# Altium integrated library STMicro-STM32F0.IntLib: 143 symbols (part 11 of 11)
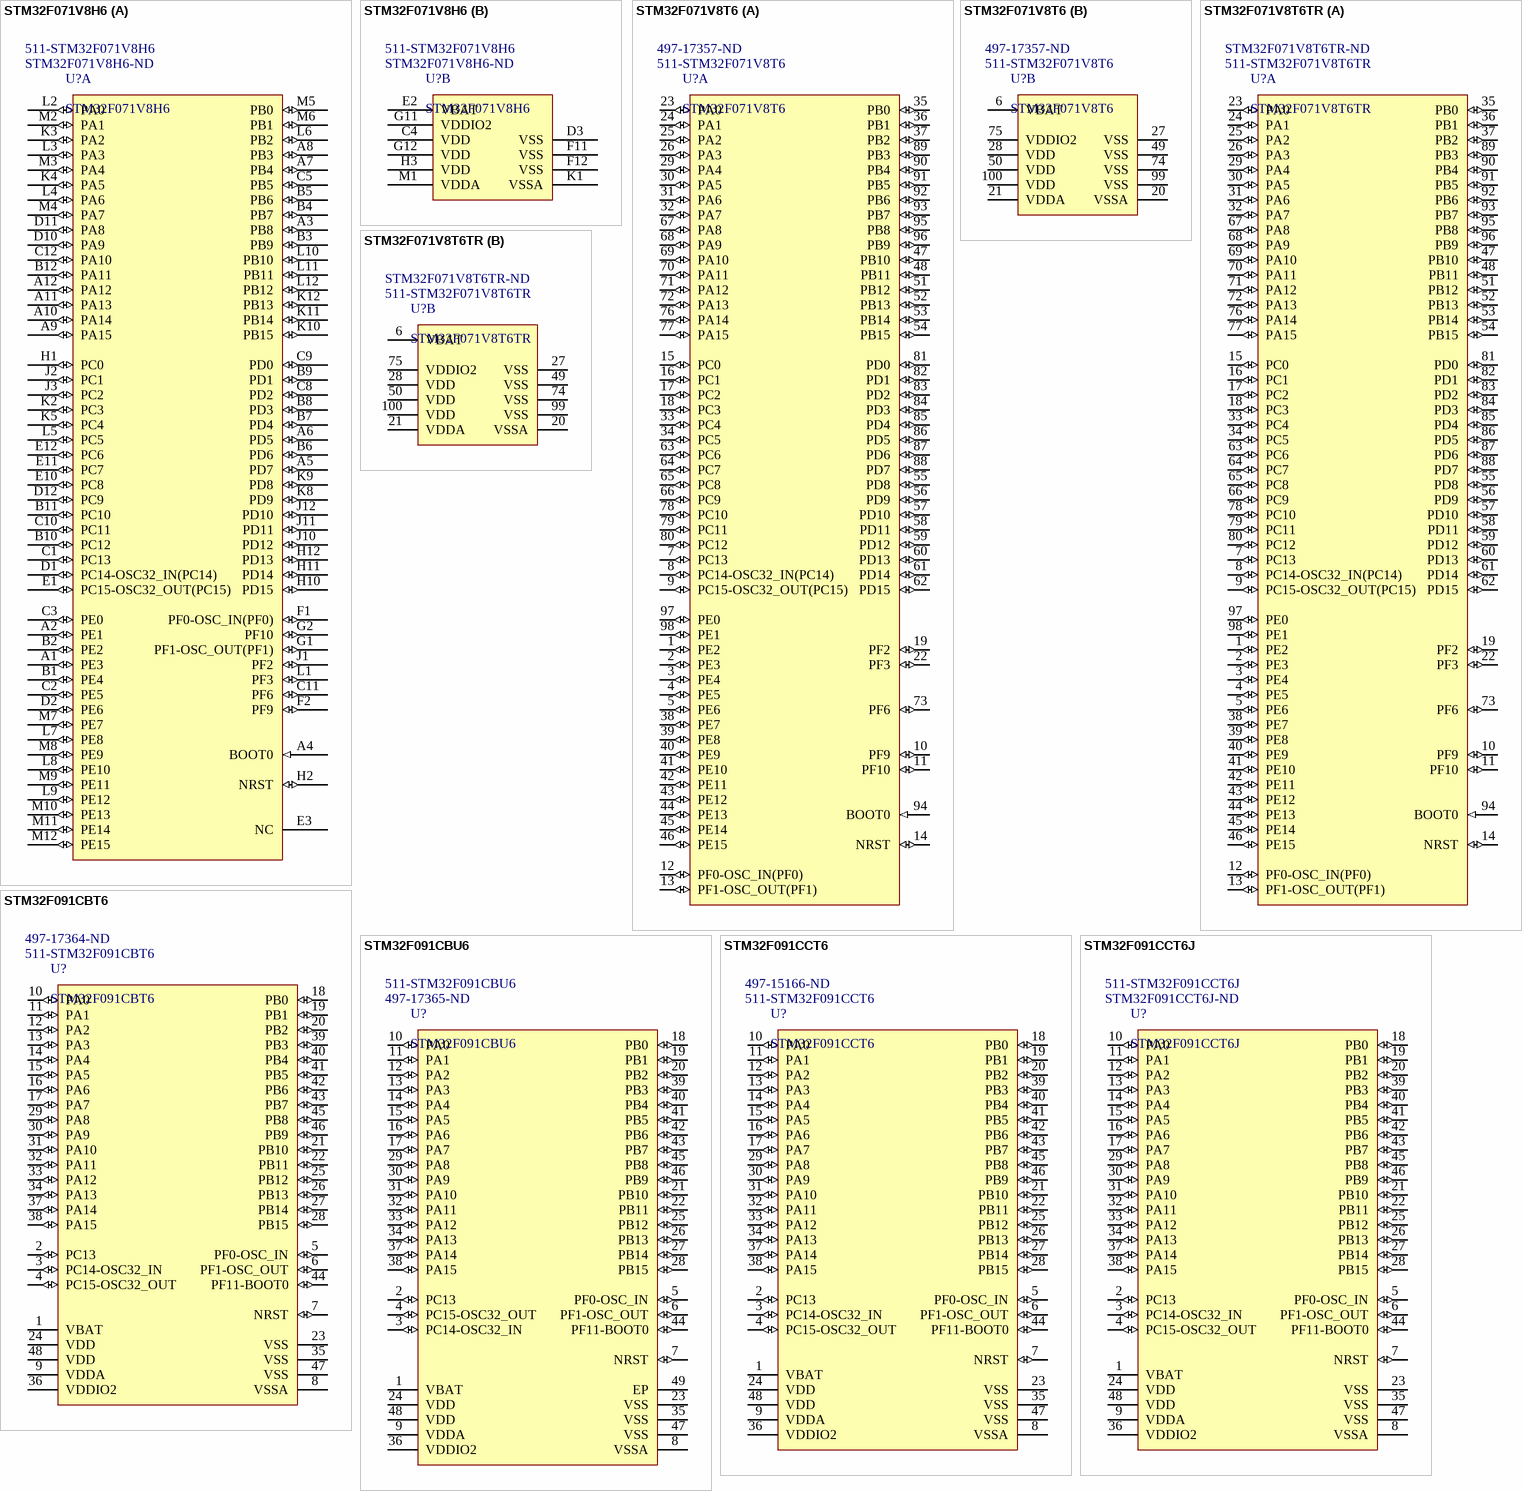
[diagram p24: symbols STM32F071V8H6 to STM32F091CCT6J]

## STM32F071V8T6TR
designator U?  Supplier Part Number 1: 511-STM32F071V8T6TR  Supplier Part Number 2: STM32F071V8T6TR-ND
ARM Cortex-M0 32-bit MCU, 64 KB Flash, 16 KB Internal RAM, 87 I/Os, 100-Pin LQFP, -40 to 85 degC, Tape and Reel; I/Os (High Current): 87; Supply Voltage(Vcc) min (V): 2; Internal RAM Size (kB): 16; FLASH Size (Prog) (kB): 64; Operating Frequency(F) (Processor speed) (MHz): 48; Mounting Technology: Surface Mount; DatasheetVersion: Rev. 6; ComponentLink2URL: http://www.st.com/st-web-ui/static/active/en/resource/technical/document/datasheet/DM00098745.pdf; Package Description: 100-Pin Low Profile Quad Flat Package, Body 14 x 14 mm, Pitch 0.5 mm; Core: ARM Cortex-M0; ComponentLink2Description: Datasheet; ComponentLink1Description: Manufacturer URL; Package Reference: LQFP100; ComponentLink1URL: http://www.st.com/; D/A Converter: 2; Packing: Tape and Reel; Supplier 1: Mouser; Supplier 2: Digi-Key
footprint STM-LQFP100_L (Thin QFP, 100-Leads, Body 14x14mm, Pitch 0.5mm, IPC High Density)
footprint STM-LQFP100_M (Thin QFP, 100-Leads, Body 14x14mm, Pitch 0.5mm, IPC Low Density)
footprint STM-LQFP100_N (Thin QFP, 100-Leads, Body 14x14mm, Pitch 0.5mm, IPC Medium Density)
part A pins: 1 PE2 (io) "PE2/TSC_G7_IO1,TIM3_ETR", 2 PE3 (io) "PE3/TSC_G7_IO2,TIM3_CH1", 3 PE4 (io) "PE4/TSC_G7_IO3,TIM3_CH2", 4 PE5 (io) "PE5/TSC_G7_IO4,TIM3_CH3", 5 PE6 (io) "PE6/TIM3_CH4/WKUP3,RTC_TAMP3", 7 PC13 (io) "PC13/WKUP2,RTC_TAMP1,RTC_TS,RTC_OUT", 8 PC14-OSC32_IN(PC14) (io) "PC14-OSC32_IN(PC14)/OSC32_IN", 9 PC15-OSC32_OUT(PC15) (io) "PC15-OSC32_OUT(PC15)/OSC32_OUT", 10 PF9 (io) "PF9/TIM15_CH1", 11 PF10 (io) "PF10/TIM15_CH2", 12 PF0-OSC_IN(PF0) (io) "PF0-OSC_IN(PF0)/CRS_SYNC/OSC_IN", 13 PF1-OSC_OUT(PF1) (io) "PF1-OSC_OUT(PF1)/OSC_OUT", 14 NRST (io) "Device reset input/internal reset output(active low)", 15 PC0 (io) "PC0/EVENTOUT/ADC_IN10", 16 PC1 (io) "PC1/EVENTOUT/ADC_IN11", 17 PC2 (io) "PC2/SPI2_MISO,I2S2_MCK,EVENTOUT/ADC_IN12", 18 PC3 (io) "PC3/SPI2_MOSI,I2S2_SD,EVENTOUT/ADC_IN13", 19 PF2 (io) "PF2/EVENTOUT/WKUP8", 22 PF3 (io) "PF3/EVENTOUT", 23 PA0 (io) "PA0/USART2_CTS,TIM2_CH1_ETR,TSC_G1_IO1,USART4_TX/RTC_TAMP2,WKUP1,COMP1_OUT,ADC_IN0,COMP1_INM6", 24 PA1 (io) "PA1/USART2_RTS,TIM2_CH2,TIM15_CH1N,TSC_G1_IO2,USART4_RX,EVENTOUT/ADC_IN1,COMP1_INP", 25 PA2 (io) "PA2/USART2_TX,TIM2_CH3,TIM15_CH1,TSC_G1_IO3/ADC_IN2,COMP2_OUT,COMP2_INM6,WKUP4", 26 PA3 (io) "PA3/USART2_RX,TIM2_CH4,TIM15_CH2,TSC_G1_IO4/ADC_IN3,COMP2_INP", 29 PA4 (io) "PA4/SPI1_NSS,I2S1_WS,TIM14_CH1,TSC_G2_IO1,USART2_CK/COMP1_INM4,COMP2_INM4,ADC_IN4,DAC_OUT1", 30 PA5 (io) "PA5/SPI1_SCK,I2S1_CK,CEC,TIM2_CH1_ETR,TSC_G2_IO2/COMP1_INM5,COMP2_INM5,ADC_IN5,DAC_OUT2", 31 PA6 (io) "PA6/SPI1_MISO,I2S1_MCK,TIM3_CH1,TIM1_BKIN,TIM16_CH1,COMP1_OUT,TSC_G2_IO3,EVENTOUT,USART3_CTS/ADC_IN6", 32 PA7 (io) "PA7/SPI1_MOSI,I2S1_SD,TIM3_CH2,TIM14_CH1,TIM1_CH1N,TIM17_CH1,COMP2_OUT,TSC_G2_IO4,EVENTOUT/ADC_IN7", 33 PC4 (io) "PC4/EVENTOUT,USART3_TX/ADC_IN14", 34 PC5 (io) "PC5/TSC_G3_IO1,USART3_RX/ADC_IN15,WKUP5", 35 PB0 (io) "PB0/TIM3_CH3,TIM1_CH2N,TSC_G3_IO2,EVENTOUT,USART3_CK/ADC_IN8", 36 PB1 (io) "PB1/TIM3_CH4,USART3_RTS,TIM14_CH1,TIM1_CH3N,TSC_G3_IO3/ADC_IN9", 37 PB2 (io) "PB2/TSC_G3_IO4", 38 PE7 (io) "PE7/TIM1_ETR", 39 PE8 (io) "PE8/TIM1_CH1N", 40 PE9 (io) "PE9/TIM1_CH1", 41 PE10 (io) "PE10/TIM1_CH2N", 42 PE11 (io) "PE11/TIM1_CH2", 43 PE12 (io) "PE12/SPI1_NSS,I2S1_WS,TIM1_CH3N", 44 PE13 (io) "PE13/SPI1_SCK,I2S1_CK,TIM1_CH3", 45 PE14 (io) "PE14/SPI1_MISO,I2S1_MCK,TIM1_CH4", 46 PE15 (io) "PE15/SPI1_MOSI,I2S1_SD,TIM1_BKIN", 47 PB10 (io) "PB10/SPI2_SCK,I2C2_SCL,USART3_TX,CEC,TSC_SYNC,TIM2_CH3", 48 PB11 (io) "PB11/USART3_RX,TIM2_CH4,EVENTOUT,TSC_G6_IO1,I2C2_SDA", 51 PB12 (io) "PB12/TIM1_BKIN,TIM15_BKIN,SPI2_NSS,I2S2_WS,USART3_CK,TSC_G6_IO2,EVENTOUT", 52 PB13 (io) "PB13/SPI2_SCK,I2S2_CK,I2C2_SCL,USART3_CTS,TIM1_CH1N,TSC_G6_IO3", 53 PB14 (io) "PB14/SPI2_MISO,I2S2_MCK,I2C2_SDA,USART3_RTS,TIM1_CH2N,TIM15_CH1,TSC_G6_IO4", 54 PB15 (io) "PB15/SPI2_MOSI,I2S2_SD,TIM1_CH3N,TIM15_CH1N,TIM15_CH2/WKUP7,RTC_REFIN", 55 PD8 (io) "PD8/USART3_TX", 56 PD9 (io) "PD9/USART3_RX", 57 PD10 (io) "PD10/USART3_CK", 58 PD11 (io) "PD11/USART3_CTS", 59 PD12 (io) "PD12/USART3_RTS,TSC_G8_IO1", 60 PD13 (io) "PD13/TSC_G8_IO2", 61 PD14 (io) "PD14/TSC_G8_IO3", 62 PD15 (io) "PD15/TSC_G8_IO4,CRS_SYNC", 63 PC6 (io) "PC6/TIM3_CH1", 64 PC7 (io) "PC7/TIM3_CH2", 65 PC8 (io) "PC8/TIM3_CH3", 66 PC9 (io) "PC9/TIM3_CH4", 67 PA8 (io) "PA8/USART1_CK,TIM1_CH1,EVENTOUT,MCO,CRS_SYNC", 68 PA9 (io) "PA9/USART1_TX,TIM1_CH2,TIM15_BKIN,TSC_G4_IO1", 69 PA10 (io) "PA10/USART1_RX,TIM1_CH3,TIM17_BKIN,TSC_G4_IO2", 70 PA11 (io) "PA11/USART1_CTS,TIM1_CH4,COMP1_OUT,TSC_G4_IO3,EVENTOUT", 71 PA12 (io) "PA12/USART1_RTS,TIM1_ETR,COMP2_OUT,TSC_G4_IO4,EVENTOUT", 72 PA13 (io) "PA13/IR_OUT,SWDIO", 73 PF6 (io), 76 PA14 (io) "PA14/USART2_TX,SWCLK", 77 PA15 (io) "PA15/SPI1_NSS,I2S1_WS,USART2_RX,USART4_RTS,TIM2_CH1_ETR,EVENTOUT", 78 PC10 (io) "PC10/USART3_TX,USART4_TX", 79 PC11 (io) "PC11/USART3_RX,USART4_RX", 80 PC12 (io) "PC12/USART3_CK,USART4_CK", 81 PD0 (io) "PD0/SPI2_NSS,I2S2_WS", 82 PD1 (io) "PD1/SPI2_SCK,I2S2_CK", 83 PD2 (io) "PD2/USART3_RTS,TIM3_ETR", 84 PD3 (io) "PD3/SPI2_MISO,I2S2_MCK,USART2_CTS", 85 PD4 (io) "PD4/SPI2_MOSI,I2S2_SD,USART2_RTS", 86 PD5 (io) "PD5/USART2_TX", 87 PD6 (io) "PD6/USART2_RX", 88 PD7 (io) "PD7/USART2_CK", 89 PB3 (io) "PB3/SPI1_SCK,I2S1_CK,TIM2_CH2,TSC_G5_IO1,EVENTOUT", 90 PB4 (io) "PB4/SPI1_MISO,I2S1_MCK,TIM17_BKIN,TIM3_CH1,TSC_G5_IO2,EVENTOUT", 91 PB5 (io) "PB5/SPI1_MOSI,I2S1_SD,I2C1_SMBA,TIM16_BKIN,TIM3_CH2/WKUP6", 92 PB6 (io) "PB6/I2C1_SCL,USART1_TX,TIM16_CH1N,TSC_G5_IO3", 93 PB7 (io) "PB7/I2C1_SDA,USART1_RX,USART4_CTS,TIM17_CH1N,TSC_G5_IO4", 94 BOOT0 (in) "Boot memory selection", 95 PB8 (io) "PB8/I2C1_SCL,CEC,TIM16_CH1,TSC_SYNC", 96 PB9 (io) "PB9/SPI2_NSS,I2S2_WS,I2C1_SDA,IR_OUT,TIM17_CH1,EVENTOUT", 97 PE0 (io) "PE0/EVENTOUT,TIM16_CH1", 98 PE1 (io) "PE1/EVENTOUT,TIM17_CH1"
part B pins: 6 VBAT (power) "Backup power supply", 20 VSSA (power) "Analog ground", 21 VDDA (power) "Analog power supply", 27 VSS (power) "Ground", 28 VDD (power) "Digital power supply", 49 VSS (power) "Ground", 50 VDD (power) "Digital power supply", 74 VSS (power) "Ground", 75 VDDIO2 (power) "Digital power supply", 99 VSS (power) "Ground", 100 VDD (power) "Digital power supply"

## STM32F091CBT6
designator U?  Supplier Part Number 1: 511-STM32F091CBT6  Supplier Part Number 2: 497-17364-ND
ARM-based 32-bit MCU, CAN, 12 timers, ADC, DAC & Comm. Interface, 2 to 3.6 V, -40 to 85 degC, 48-Pin LQFP, RoHS, Tray; Manufacturer: STMicroelectronics; Flash: 128 Kbytes; SRAM: 32 Kbytes; CPU Frequency: 48 MHz Max.; GPIOs: 37; Capacitive Sensing Channels: 16; Packing: Tray; ComponentLink3URL: http://www.st.com/st-web-ui/static/active/en/resource/technical/document/datasheet/DM00115237.pdf; ComponentLink2URL: http://www.st.com/st-web-ui/static/active/en/resource/technical/document/datasheet/DM00115237.pdf; PartNumber: STM32F091CBT6; ComponentLink1URL: www.st.com; ComponentLink1Description: Manufacturer URL; Temperature Range: -40 to 85 degC; Operating Voltage: 2 to 3.6 V; Mounting Technology: Surface Mount; PackageDescription: 48-Pin Low-Profile Quad Flat Package, Body 7 x 7 mm, Pitch 0.5 mm; ComponentLink3Description: Package Specification; RoHS: TRUE; ComponentLink2Description: Datasheet; DatasheetVersion: Rev. 2; Supplier 1: Mouser; Supplier 2: Digi-Key
footprint LQFP48_N (Thin QFP, 48-Leads, Body 7x7mm, Pitch 0.5mm, IPC Medium Density)
footprint LQFP48_L (Thin QFP, 48-Leads, Body 7x7mm, Pitch 0.5mm, IPC High Density)
footprint LQFP48_M (Thin QFP, 48-Leads, Body 7x7mm, Pitch 0.5mm, IPC Low Density)
pins: 1 VBAT (power) "Backup power supply", 2 PC13 (io), 3 PC14-OSC32_IN (io), 4 PC15-OSC32_OUT (io), 5 PF0-OSC_IN (io), 6 PF1-OSC_OUT (io), 7 NRST (io) "Device reset input / internal reset output (active low)", 8 VSSA (power) "Analog ground", 9 VDDA (power) "Analog power supply", 10 PA0 (io), 11 PA1 (io), 12 PA2 (io), 13 PA3 (io), 14 PA4 (io) "ADC-B input 4", 15 PA5 (io) "ADC-B input 5", 16 PA6 (io), 17 PA7 (io), 18 PB0 (io), 19 PB1 (io), 20 PB2 (io), 21 PB10 (io), 22 PB11 (io), 23 VSS (power), 24 VDD (power) "ADC-D input 4", 25 PB12 (io) "ADC-D input 5", 26 PB13 (io) "Error status output. This pin has pulldown.", 27 PB14 (io) "Flash test pin 1. Reserved for TI. Must be left unconnected.", 28 PB15 (io) "Flash test pin 2. Reserved for TI. Must be left unconnected.", 29 PA8 (io), 30 PA9 (io), 31 PA10 (io), 32 PA11 (io), 33 PA12 (io), 34 PA13 (io), 35 VSS (power) "Ground", 36 VDDIO2 (power) "Digital power supply", 37 PA14 (io), 38 PA15 (io), 39 PB3 (io), 40 PB4 (io), 41 PB5 (io), 42 PB6 (io), 43 PB7 (io), 44 PF11-BOOT0 (io), 45 PB8 (io), 46 PB9 (io), 47 VSS (power) "Ground", 48 VDD (power) "Digital power supply"

## STM32F091CBU6
designator U?  Supplier Part Number 1: 497-17365-ND  Supplier Part Number 2: 511-STM32F091CBU6
ARM-based 32-bit MCU, CAN, 12 timers, ADC, DAC & Comm. Interface, 2 to 3.6 V, -40 to 85 degC, 48-Pin UFQFPN, RoHS, Tray; Manufacturer: STMicroelectronics; GPIOs: 37; Capacitive Sensing Channels: 16; Flash: 128 Kbytes; CPU Frequency: 48 MHz Max.; SRAM: 32 Kbytes; RoHS: TRUE; Packing: Tray; PackageDescription: 48-Pin Quad Flat Non-Leaded Package, Body 7 x 7 mm, Pitch 0.5 mm; ComponentLink2Description: Datasheet; Temperature Range: -40 to 85 degC; Operating Voltage: 2 to 3.6 V; ComponentLink1URL: www.st.com; ComponentLink1Description: Manufacturer URL; PartNumber: STM32F091CBU6; DatasheetVersion: Rev. 2; ComponentLink2URL: http://www.st.com/st-web-ui/static/active/en/resource/technical/document/datasheet/DM00115237.pdf; ComponentLink3URL: http://www.st.com/st-web-ui/static/active/en/resource/technical/document/datasheet/DM00115237.pdf; ComponentLink3Description: Package Specification; Mounting Technology: Surface Mount; Supplier 1: Digi-Key; Supplier 2: Mouser
footprint UFQFPN48_N (QFN, 48-Leads, Body 7x7mm, Pitch 0.5mm, Thermal Pad 5.6x5.6mm, IPC Medium Density)
footprint UFQFPN48_M (QFN, 48-Leads, Body 7x7mm, Pitch 0.5mm, Thermal Pad 5.6x5.6mm, IPC Low Density)
footprint UFQFPN48_L (QFN, 48-Leads, Body 7x7mm, Pitch 0.5mm, Thermal Pad 5.6x5.6mm, IPC High Density)
pins: 1 VBAT (power) "Backup power supply", 2 PC13 (io), 3 PC14-OSC32_IN (io), 4 PC15-OSC32_OUT (io), 5 PF0-OSC_IN (io), 6 PF1-OSC_OUT (io), 7 NRST (io) "Device reset input / internal reset output (active low)", 8 VSSA (power) "Analog ground", 9 VDDA (power) "Analog power supply", 10 PA0 (io), 11 PA1 (io), 12 PA2 (io), 13 PA3 (io), 14 PA4 (io) "ADC-B input 4", 15 PA5 (io) "ADC-B input 5", 16 PA6 (io), 17 PA7 (io), 18 PB0 (io), 19 PB1 (io), 20 PB2 (io), 21 PB10 (io), 22 PB11 (io), 23 VSS (power), 24 VDD (power) "ADC-D input 4", 25 PB12 (io) "ADC-D input 5", 26 PB13 (io) "Error status output. This pin has pulldown.", 27 PB14 (io) "Flash test pin 1. Reserved for TI. Must be left unconnected.", 28 PB15 (io) "Flash test pin 2. Reserved for TI. Must be left unconnected.", 29 PA8 (io), 30 PA9 (io), 31 PA10 (io), 32 PA11 (io), 33 PA12 (io), 34 PA13 (io), 35 VSS (power) "Ground", 36 VDDIO2 (power) "Digital power supply", 37 PA14 (io), 38 PA15 (io), 39 PB3 (io), 40 PB4 (io), 41 PB5 (io), 42 PB6 (io), 43 PB7 (io), 44 PF11-BOOT0 (io), 45 PB8 (io), 46 PB9 (io), 47 VSS (power) "Ground", 48 VDD (power) "Digital power supply", 49 EP

## STM32F091CCT6
designator U?  Supplier Part Number 1: 511-STM32F091CCT6  Supplier Part Number 2: 497-15166-ND
ARM-based 32-bit MCU, CAN, 12 timers, ADC, DAC & Comm. Interface, 2 to 3.6 V, -40 to 85 degC, 48-Pin LQFP, RoHS, Tray; Manufacturer: STMicroelectronics; CPU Frequency: 48 MHz Max.; GPIOs: 37; SRAM: 32 Kbytes; Capacitive Sensing Channels: 16; Flash: 256 Kbytes; ComponentLink2URL: http://www.st.com/st-web-ui/static/active/en/resource/technical/document/datasheet/DM00115237.pdf; RoHS: TRUE; ComponentLink1Description: Manufacturer URL; ComponentLink3URL: http://www.st.com/st-web-ui/static/active/en/resource/technical/document/datasheet/DM00115237.pdf; Operating Voltage: 2 to 3.6 V; ComponentLink1URL: www.st.com; DatasheetVersion: Rev. 2; Mounting Technology: Surface Mount; ComponentLink2Description: Datasheet; ComponentLink3Description: Package Specification; Packing: Tray; PackageDescription: 48-Pin Low-Profile Quad Flat Package, Body 7 x 7 mm, Pitch 0.5 mm; Temperature Range: -40 to 85 degC; PartNumber: STM32F091CCT6; Supplier 1: Mouser; Supplier 2: Digi-Key
footprint LQFP48_N (Thin QFP, 48-Leads, Body 7x7mm, Pitch 0.5mm, IPC Medium Density)
footprint LQFP48_L (Thin QFP, 48-Leads, Body 7x7mm, Pitch 0.5mm, IPC High Density)
footprint LQFP48_M (Thin QFP, 48-Leads, Body 7x7mm, Pitch 0.5mm, IPC Low Density)
pins: 1 VBAT (power) "Backup power supply", 2 PC13 (io), 3 PC14-OSC32_IN (io), 4 PC15-OSC32_OUT (io), 5 PF0-OSC_IN (io), 6 PF1-OSC_OUT (io), 7 NRST (io) "Device reset input / internal reset output (active low)", 8 VSSA (power) "Analog ground", 9 VDDA (power) "Analog power supply", 10 PA0 (io), 11 PA1 (io), 12 PA2 (io), 13 PA3 (io), 14 PA4 (io) "ADC-B input 4", 15 PA5 (io) "ADC-B input 5", 16 PA6 (io), 17 PA7 (io), 18 PB0 (io), 19 PB1 (io), 20 PB2 (io), 21 PB10 (io), 22 PB11 (io), 23 VSS (power), 24 VDD (power) "ADC-D input 4", 25 PB12 (io) "ADC-D input 5", 26 PB13 (io) "Error status output. This pin has pulldown.", 27 PB14 (io) "Flash test pin 1. Reserved for TI. Must be left unconnected.", 28 PB15 (io) "Flash test pin 2. Reserved for TI. Must be left unconnected.", 29 PA8 (io), 30 PA9 (io), 31 PA10 (io), 32 PA11 (io), 33 PA12 (io), 34 PA13 (io), 35 VSS (power) "Ground", 36 VDDIO2 (power) "Digital power supply", 37 PA14 (io), 38 PA15 (io), 39 PB3 (io), 40 PB4 (io), 41 PB5 (io), 42 PB6 (io), 43 PB7 (io), 44 PF11-BOOT0 (io), 45 PB8 (io), 46 PB9 (io), 47 VSS (power) "Ground", 48 VDD (power) "Digital power supply"

## STM32F091CCT6J
designator U?  Supplier Part Number 1: STM32F091CCT6J-ND  Supplier Part Number 2: 511-STM32F091CCT6J
ARM-based 32-bit MCU, CAN, 12 timers, ADC, DAC & Comm. Interface, 2 to 3.6 V, -40 to 85 degC, 48-Pin LQFP, RoHS, Tray; Manufacturer: STMicroelectronics; SRAM: 32 Kbytes; GPIOs: 37; Flash: 256 Kbytes; CPU Frequency: 48 MHz Max.; Capacitive Sensing Channels: 16; ComponentLink1Description: Manufacturer URL; ComponentLink2Description: Datasheet; DatasheetVersion: Rev. 2; PartNumber: STM32F091CCT6J; ComponentLink3Description: Package Specification; ComponentLink2URL: http://www.st.com/st-web-ui/static/active/en/resource/technical/document/datasheet/DM00115237.pdf; Operating Voltage: 2 to 3.6 V; PackageDescription: 48-Pin Low-Profile Quad Flat Package, Body 7 x 7 mm, Pitch 0.5 mm; Mounting Technology: Surface Mount; Temperature Range: -40 to 85 degC; ComponentLink3URL: http://www.st.com/st-web-ui/static/active/en/resource/technical/document/datasheet/DM00115237.pdf; RoHS: TRUE; ComponentLink1URL: www.st.com; Packing: Tray; Supplier 1: Digi-Key; Supplier 2: Mouser
footprint LQFP48_N (Thin QFP, 48-Leads, Body 7x7mm, Pitch 0.5mm, IPC Medium Density)
footprint LQFP48_L (Thin QFP, 48-Leads, Body 7x7mm, Pitch 0.5mm, IPC High Density)
footprint LQFP48_M (Thin QFP, 48-Leads, Body 7x7mm, Pitch 0.5mm, IPC Low Density)
pins: 1 VBAT (power) "Backup power supply", 2 PC13 (io), 3 PC14-OSC32_IN (io), 4 PC15-OSC32_OUT (io), 5 PF0-OSC_IN (io), 6 PF1-OSC_OUT (io), 7 NRST (io) "Device reset input / internal reset output (active low)", 8 VSSA (power) "Analog ground", 9 VDDA (power) "Analog power supply", 10 PA0 (io), 11 PA1 (io), 12 PA2 (io), 13 PA3 (io), 14 PA4 (io) "ADC-B input 4", 15 PA5 (io) "ADC-B input 5", 16 PA6 (io), 17 PA7 (io), 18 PB0 (io), 19 PB1 (io), 20 PB2 (io), 21 PB10 (io), 22 PB11 (io), 23 VSS (power), 24 VDD (power) "ADC-D input 4", 25 PB12 (io) "ADC-D input 5", 26 PB13 (io) "Error status output. This pin has pulldown.", 27 PB14 (io) "Flash test pin 1. Reserved for TI. Must be left unconnected.", 28 PB15 (io) "Flash test pin 2. Reserved for TI. Must be left unconnected.", 29 PA8 (io), 30 PA9 (io), 31 PA10 (io), 32 PA11 (io), 33 PA12 (io), 34 PA13 (io), 35 VSS (power) "Ground", 36 VDDIO2 (power) "Digital power supply", 37 PA14 (io), 38 PA15 (io), 39 PB3 (io), 40 PB4 (io), 41 PB5 (io), 42 PB6 (io), 43 PB7 (io), 44 PF11-BOOT0 (io), 45 PB8 (io), 46 PB9 (io), 47 VSS (power) "Ground", 48 VDD (power) "Digital power supply"

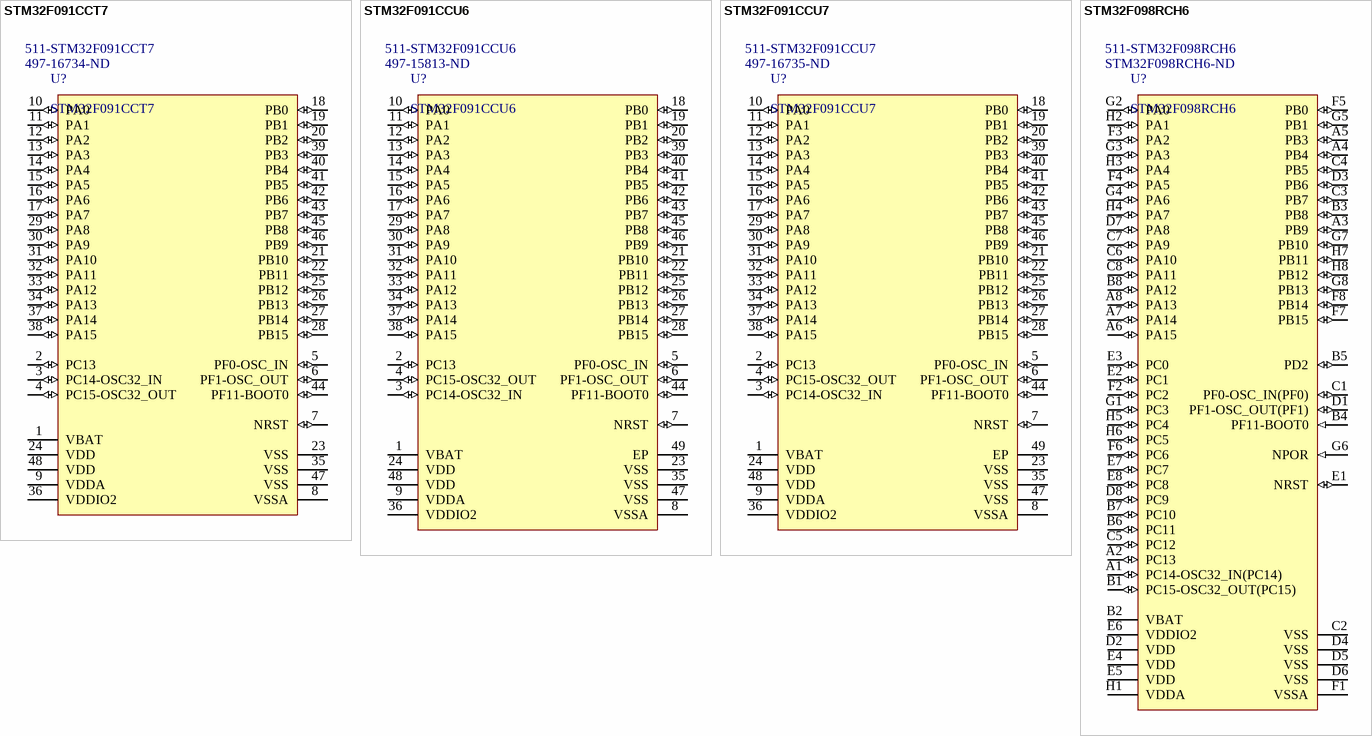
[diagram p14: symbols STM32F091CCT7 to STM32F098RCH6]

## STM32F091CCT7
designator U?  Supplier Part Number 1: 497-16734-ND  Supplier Part Number 2: 511-STM32F091CCT7
ARM-based 32-bit MCU, CAN, 12 timers, ADC, DAC & Comm. Interface, 2 to 3.6 V, -40 to 105 degC, 48-Pin LQFP, RoHS, Tray; Manufacturer: STMicroelectronics; Flash: 256 Kbytes; SRAM: 32 Kbytes; Capacitive Sensing Channels: 16; GPIOs: 37; CPU Frequency: 48 MHz Max.; ComponentLink1URL: www.st.com; ComponentLink3URL: http://www.st.com/st-web-ui/static/active/en/resource/technical/document/datasheet/DM00115237.pdf; RoHS: TRUE; Operating Voltage: 2 to 3.6 V; ComponentLink2Description: Datasheet; ComponentLink3Description: Package Specification; Packing: Tray; ComponentLink2URL: http://www.st.com/st-web-ui/static/active/en/resource/technical/document/datasheet/DM00115237.pdf; PackageDescription: 48-Pin Low-Profile Quad Flat Package, Body 7 x 7 mm, Pitch 0.5 mm; Mounting Technology: Surface Mount; ComponentLink1Description: Manufacturer URL; PartNumber: STM32F091CCT7; DatasheetVersion: Rev. 2; Temperature Range: -40 to 105 degC; Supplier 1: Digi-Key; Supplier 2: Mouser
footprint LQFP48_N (Thin QFP, 48-Leads, Body 7x7mm, Pitch 0.5mm, IPC Medium Density)
footprint LQFP48_L (Thin QFP, 48-Leads, Body 7x7mm, Pitch 0.5mm, IPC High Density)
footprint LQFP48_M (Thin QFP, 48-Leads, Body 7x7mm, Pitch 0.5mm, IPC Low Density)
pins: 1 VBAT (power) "Backup power supply", 2 PC13 (io), 3 PC14-OSC32_IN (io), 4 PC15-OSC32_OUT (io), 5 PF0-OSC_IN (io), 6 PF1-OSC_OUT (io), 7 NRST (io) "Device reset input / internal reset output (active low)", 8 VSSA (power) "Analog ground", 9 VDDA (power) "Analog power supply", 10 PA0 (io), 11 PA1 (io), 12 PA2 (io), 13 PA3 (io), 14 PA4 (io) "ADC-B input 4", 15 PA5 (io) "ADC-B input 5", 16 PA6 (io), 17 PA7 (io), 18 PB0 (io), 19 PB1 (io), 20 PB2 (io), 21 PB10 (io), 22 PB11 (io), 23 VSS (power), 24 VDD (power) "ADC-D input 4", 25 PB12 (io) "ADC-D input 5", 26 PB13 (io) "Error status output. This pin has pulldown.", 27 PB14 (io) "Flash test pin 1. Reserved for TI. Must be left unconnected.", 28 PB15 (io) "Flash test pin 2. Reserved for TI. Must be left unconnected.", 29 PA8 (io), 30 PA9 (io), 31 PA10 (io), 32 PA11 (io), 33 PA12 (io), 34 PA13 (io), 35 VSS (power) "Ground", 36 VDDIO2 (power) "Digital power supply", 37 PA14 (io), 38 PA15 (io), 39 PB3 (io), 40 PB4 (io), 41 PB5 (io), 42 PB6 (io), 43 PB7 (io), 44 PF11-BOOT0 (io), 45 PB8 (io), 46 PB9 (io), 47 VSS (power) "Ground", 48 VDD (power) "Digital power supply"

## STM32F091CCU6
designator U?  Supplier Part Number 1: 497-15813-ND  Supplier Part Number 2: 511-STM32F091CCU6
ARM-based 32-bit MCU, CAN, 12 timers, ADC, DAC & Comm. Interface, 2 to 3.6 V, -40 to 85 degC, 48-Pin UFQFPN, RoHS, Tray; Manufacturer: STMicroelectronics; Flash: 256 Kbytes; CPU Frequency: 48 MHz Max.; SRAM: 32 Kbytes; GPIOs: 37; Capacitive Sensing Channels: 16; ComponentLink2Description: Datasheet; DatasheetVersion: Rev. 2; ComponentLink3URL: http://www.st.com/st-web-ui/static/active/en/resource/technical/document/datasheet/DM00115237.pdf; PackageDescription: 48-Pin Quad Flat Non-Leaded Package, Body 7 x 7 mm, Pitch 0.5 mm; ComponentLink1URL: www.st.com; Temperature Range: -40 to 85 degC; ComponentLink2URL: http://www.st.com/st-web-ui/static/active/en/resource/technical/document/datasheet/DM00115237.pdf; PartNumber: STM32F091CCU6; Mounting Technology: Surface Mount; RoHS: TRUE; ComponentLink3Description: Package Specification; Operating Voltage: 2 to 3.6 V; Packing: Tray; ComponentLink1Description: Manufacturer URL; Supplier 1: Digi-Key; Supplier 2: Mouser
footprint UFQFPN48_N (QFN, 48-Leads, Body 7x7mm, Pitch 0.5mm, Thermal Pad 5.6x5.6mm, IPC Medium Density)
footprint UFQFPN48_M (QFN, 48-Leads, Body 7x7mm, Pitch 0.5mm, Thermal Pad 5.6x5.6mm, IPC Low Density)
footprint UFQFPN48_L (QFN, 48-Leads, Body 7x7mm, Pitch 0.5mm, Thermal Pad 5.6x5.6mm, IPC High Density)
pins: 1 VBAT (power) "Backup power supply", 2 PC13 (io), 3 PC14-OSC32_IN (io), 4 PC15-OSC32_OUT (io), 5 PF0-OSC_IN (io), 6 PF1-OSC_OUT (io), 7 NRST (io) "Device reset input / internal reset output (active low)", 8 VSSA (power) "Analog ground", 9 VDDA (power) "Analog power supply", 10 PA0 (io), 11 PA1 (io), 12 PA2 (io), 13 PA3 (io), 14 PA4 (io) "ADC-B input 4", 15 PA5 (io) "ADC-B input 5", 16 PA6 (io), 17 PA7 (io), 18 PB0 (io), 19 PB1 (io), 20 PB2 (io), 21 PB10 (io), 22 PB11 (io), 23 VSS (power), 24 VDD (power) "ADC-D input 4", 25 PB12 (io) "ADC-D input 5", 26 PB13 (io) "Error status output. This pin has pulldown.", 27 PB14 (io) "Flash test pin 1. Reserved for TI. Must be left unconnected.", 28 PB15 (io) "Flash test pin 2. Reserved for TI. Must be left unconnected.", 29 PA8 (io), 30 PA9 (io), 31 PA10 (io), 32 PA11 (io), 33 PA12 (io), 34 PA13 (io), 35 VSS (power) "Ground", 36 VDDIO2 (power) "Digital power supply", 37 PA14 (io), 38 PA15 (io), 39 PB3 (io), 40 PB4 (io), 41 PB5 (io), 42 PB6 (io), 43 PB7 (io), 44 PF11-BOOT0 (io), 45 PB8 (io), 46 PB9 (io), 47 VSS (power) "Ground", 48 VDD (power) "Digital power supply", 49 EP

## STM32F091CCU7
designator U?  Supplier Part Number 1: 497-16735-ND  Supplier Part Number 2: 511-STM32F091CCU7
ARM-based 32-bit MCU, CAN, 12 timers, ADC, DAC & Comm. Interface, 2 to 3.6 V, -40 to 105 degC, 48-Pin UFQFPN, RoHS, Tray; Manufacturer: STMicroelectronics; Flash: 256 Kbytes; GPIOs: 37; SRAM: 32 Kbytes; Capacitive Sensing Channels: 16; CPU Frequency: 48 MHz Max.; Mounting Technology: Surface Mount; RoHS: TRUE; PartNumber: STM32F091CCU7; ComponentLink2URL: http://www.st.com/st-web-ui/static/active/en/resource/technical/document/datasheet/DM00115237.pdf; DatasheetVersion: Rev. 2; ComponentLink1URL: www.st.com; ComponentLink3URL: http://www.st.com/st-web-ui/static/active/en/resource/technical/document/datasheet/DM00115237.pdf; PackageDescription: 48-Pin Quad Flat Non-Leaded Package, Body 7 x 7 mm, Pitch 0.5 mm; Operating Voltage: 2 to 3.6 V; Temperature Range: -40 to 105 degC; ComponentLink3Description: Package Specification; ComponentLink2Description: Datasheet; Packing: Tray; ComponentLink1Description: Manufacturer URL; Supplier 1: Digi-Key; Supplier 2: Mouser
footprint UFQFPN48_N (QFN, 48-Leads, Body 7x7mm, Pitch 0.5mm, Thermal Pad 5.6x5.6mm, IPC Medium Density)
footprint UFQFPN48_M (QFN, 48-Leads, Body 7x7mm, Pitch 0.5mm, Thermal Pad 5.6x5.6mm, IPC Low Density)
footprint UFQFPN48_L (QFN, 48-Leads, Body 7x7mm, Pitch 0.5mm, Thermal Pad 5.6x5.6mm, IPC High Density)
pins: 1 VBAT (power) "Backup power supply", 2 PC13 (io), 3 PC14-OSC32_IN (io), 4 PC15-OSC32_OUT (io), 5 PF0-OSC_IN (io), 6 PF1-OSC_OUT (io), 7 NRST (io) "Device reset input / internal reset output (active low)", 8 VSSA (power) "Analog ground", 9 VDDA (power) "Analog power supply", 10 PA0 (io), 11 PA1 (io), 12 PA2 (io), 13 PA3 (io), 14 PA4 (io) "ADC-B input 4", 15 PA5 (io) "ADC-B input 5", 16 PA6 (io), 17 PA7 (io), 18 PB0 (io), 19 PB1 (io), 20 PB2 (io), 21 PB10 (io), 22 PB11 (io), 23 VSS (power), 24 VDD (power) "ADC-D input 4", 25 PB12 (io) "ADC-D input 5", 26 PB13 (io) "Error status output. This pin has pulldown.", 27 PB14 (io) "Flash test pin 1. Reserved for TI. Must be left unconnected.", 28 PB15 (io) "Flash test pin 2. Reserved for TI. Must be left unconnected.", 29 PA8 (io), 30 PA9 (io), 31 PA10 (io), 32 PA11 (io), 33 PA12 (io), 34 PA13 (io), 35 VSS (power) "Ground", 36 VDDIO2 (power) "Digital power supply", 37 PA14 (io), 38 PA15 (io), 39 PB3 (io), 40 PB4 (io), 41 PB5 (io), 42 PB6 (io), 43 PB7 (io), 44 PF11-BOOT0 (io), 45 PB8 (io), 46 PB9 (io), 47 VSS (power) "Ground", 48 VDD (power) "Digital power supply", 49 EP

## STM32F098RCH6
designator U?  Supplier Part Number 1: STM32F098RCH6-ND  Supplier Part Number 2: 511-STM32F098RCH6
ARM Cortex-M0 32-bit MCU, 256 KB Flash, 32 KB Internal RAM, 51 I/Os, 64-Pin UFBGA, -40 to 85 degC, Tray; I/Os (High Current): 51; D/A Converter: 1; FLASH Size (Prog) (kB): 256; Internal RAM Size (kB): 32; Operating Frequency(F) (Processor speed) (MHz): 48; Supply Voltage(Vcc) min (V): 1.65; ComponentLink1Description: Manufacturer URL; ComponentLink1URL: http://www.st.com/; Mounting Technology: Surface Mount; ComponentLink2Description: Datasheet; Packing: Tray; Package Description: 64-Ball Ultra Thin Fine Profile Ball Grid Array, 5 x 5 mm Body, 0.5 mm Pitch; Package Reference: UFBGA64; ComponentLink2URL: http://www.st.com/st-web-ui/static/active/en/resource/technical/document/datasheet/DM00135027.pdf; DatasheetVersion: Rev. 4; Core: ARM Cortex-M0; Supplier 1: Digi-Key; Supplier 2: Mouser
footprint STM-UFBGA64_V (BGA, 64-Balls, Body 5x5mm, Pitch 0.5mm)
pins: A1 PC14-OSC32_IN(PC14) (io) "PC14-OSC32_IN(PC14)/OSC32_IN", A2 PC13 (io) "PC13/WKUP2,RTC_TAMP1,RTC_TS,RTC_OUT", A3 PB9 (io) "PB9/SPI2_NSS,I2S2_WS,I2C1_SDA,IR_OUT,TIM17_CH1,EVENTOUT,CAN_TX", A4 PB4 (io) "PB4/SPI1_MISO,I2S1_MCK,TIM17_BKIN,TIM3_CH1,TSC_G5_IO2,EVENTOUT,USART5_RX", A5 PB3 (io) "PB3/SPI1_SCK,I2S1_CK,TIM2_CH2,TSC_G5_IO1,EVENTOUT,USART5_TX", A6 PA15 (io) "PA15/SPI1_NSS,I2S1_WS,USART2_RX,USART4_RTS,TIM2_CH1_ETR,EVENTOUT", A7 PA14 (io) "PA14/USART2_TX,SWCLK", A8 PA13 (io) "PA13/IR_OUT,SWDIO", B1 PC15-OSC32_OUT(PC15) (io) "PC15-OSC32_OUT(PC15)/OSC32_OUT", B2 VBAT (power) "Backup power supply", B3 PB8 (io) "PB8/I2C1_SCL,CEC,TIM16_CH1,TSC_SYNC,CAN_RX", B4 PF11-BOOT0 (in), B5 PD2 (io) "PD2/USART3_RTS,TIM3_ETR,USART5_RX", B6 PC11 (io) "PC11/USART3_RX,USART4_RX", B7 PC10 (io) "PC10/USART3_TX,USART4_TX", B8 PA12 (io) "PA12/CAN_TX,USART1_RTS,TIM1_ETR,COMP2_OUT,TSC_G4_IO4,EVENTOUT,I2C2_SDA", C1 PF0-OSC_IN(PF0) (io) "PF0-OSC_IN(PF0)/CRS_SYNC,I2C1_SDA/OSC_IN", C2 VSS (power) "Ground", C3 PB7 (io) "PB7/I2C1_SDA,USART1_RX,USART4_CTS,TIM17_CH1N,TSC_G5_IO4", C4 PB5 (io) "PB5/SPI1_MOSI,I2S1_SD,I2C1_SMBA,TIM16_BKIN,TIM3_CH2,USART5_CK_RTS/WKUP6", C5 PC12 (io) "PC12/USART3_CK,USART4_CK,USART5_TX", C6 PA10 (io) "PA10/USART1_RX,TIM1_CH3,TIM17_BKIN,TSC_G4_IO2,I2C1_SDA", C7 PA9 (io) "PA9/USART1_TX,TIM1_CH2,TIM15_BKIN,MCO,TSC_G4_IO1,I2C1_SCL", C8 PA11 (io) "PA11/CAN_RX,USART1_CTS,TIM1_CH4,COMP1_OUT,TSC_G4_IO3,EVENTOUT,I2C2_SCL", D1 PF1-OSC_OUT(PF1) (io) "PF1-OSC_OUT(PF1)/I2C1_SCL/OSC_OUT", D2 VDD (power) "Digital power supply", D3 PB6 (io) "PB6/I2C1_SCL,USART1_TX,TIM16_CH1N,TSC_G5_I03", D4 VSS (power) "Ground", D5 VSS (power) "Ground", D6 VSS (power) "Ground", D7 PA8 (io) "PA8/USART1_CK,TIM1_CH1,EVENTOUT,MCO,CRS_SYNC", D8 PC9 (io) "PC9/TIM3_CH4,USART8_RX", E1 NRST (io) "Device reset input/internal reset output(active low)", E2 PC1 (io) "PC1/EVENTOUT,USART6_RX,USART7_RX/ADC_IN11", E3 PC0 (io) "PC0/EVENTOUT,USART6_TX,USART7_TX/ADC_IN10", E4 VDD (power) "Digital power supply", E5 VDD (power) "Digital power supply", E6 VDDIO2 (power) "Digital power supply", E7 PC7 (io) "PC7/TIM3_CH2,USART7_RX", E8 PC8 (io) "PC8/TIM3_CH3,USART8_TX", F1 VSSA (power) "Analog ground", F2 PC2 (io) "PC2/SPI2_MISO,I2S2_MCK,EVENTOUT,USART8_TX/ADC_IN12", F3 PA2 (io) "PA2/USART2_TX,TIM2_CH3,TIM15_CH1,TSC_G1_IO3,COMP2_OUT/ADC_IN2,WKUP4,COMP2_INM6", F4 PA5 (io) "PA5/SPI1_SCK,I2S1_CK,CEC,TIM2_CH1_ETR,TSC_G2_IO2,USART6_RX/COMP1_INM5,COMP2_INM5,ADC_IN5,DAC_OUT2", F5 PB0 (io) "PB0/TIM3_CH3,TIM1_CH2N,TSC_G3_IO2,EVENTOUT,USART3_CK/ADC_IN8", F6 PC6 (io) "PC6/TIM3_CH1,USART7_TX", F7 PB15 (io) "PB15/SPI2_MOSI,I2S2_SD,TIM1_CH3N,TIM15_CH1N,TIM15_CH2/WKUP7,RTC_REFIN", F8 PB14 (io) "PB14/SPI2_MISO,I2S2_MCK,I2C2_SDA,USART3_RTS,TIM1_CH2N,TIM15_CH1,TSC_G6_IO4", G1 PC3 (io) "PC3/SPI2_MOSI,I2S2_SD,EVENTOUT,USART8_RX/ADC_IN13", G2 PA0 (io) "PA0/USART2_CTS,TIM2_CH1_ETR,TSC_G1_IO1,USART4_TX,COMP1_OUT/RTC_TAMP2,WKUP1,ADC_IN0,COMP1_INM6", G3 PA3 (io) "PA3/USART2_RX,TIM2_CH4,TIM15_CH2,TSC_G1_IO4/ADC_IN3,COMP2_INP", G4 PA6 (io) "PA6/SPI1_MISO,I2S1_MCK,TIM3_CH1,TIM1_BKIN,TIM16_CH1,COMP1_OUT,TSC_G2_IO3,EVENTOUT,USART3_CTS/ADC_IN6", G5 PB1 (io) "PB1/TIM3_CH4,USART3_RTS,TIM14_CH1,TIM1_CH3N,TSC_G3_IO3/ADC_IN9", G6 NPOR (in) "Device power-on reset input(active low)", G7 PB10 (io) "PB10/SPI2_SCK,I2S2_CK,I2C2_SCL,USART3_TX,CEC,TSC_SYNC,TIM2_CH3", G8 PB13 (io) "PB13/SPI2_SCK,I2S2_CK,I2C2_SCL,USART3_CTS,TIM1_CH1N,TSC_G6_IO3", H1 VDDA (power) "Analog power supply", H2 PA1 (io) "PA1/USART2_RTS,TIM2_CH2,TIM15_CH1N,TSC_G1_IO2,USART4_RX,EVENTOUT/ADC_IN1,COMP1_INP", H3 PA4 (io) "PA4/SPI1_NSS,I2S1_WS,TIM14_CH1,TSC_G2_IO1,USART2_CK,USART6_TX/COMP1_INM4,COMP2_INM4,ADC_IN4,DAC_OUT1", H4 PA7 (io) "PA7/SPI1_MOSI,I2S1_SD,TIM3_CH2,TIM14_CH1,TIM1_CH1N,TIM17_CH1,COMP2_OUT,TSC_G2_IO4,EVENTOUT/ADC_IN7", H5 PC4 (io) "PC4/EVENTOUT,USART3_TX/ADC_IN14", H6 PC5 (io) "PC5/TSC_G3_IO1,USART3_RX/ADC_IN15,WKUP5", H7 PB11 (io) "PB11/USART3_RX,TIM2_CH4,EVENTOUT,TSC_G6_IO1,I2C2_SDA", H8 PB12 (io) "PB12/TIM1_BKIN,TIM15_BKIN,SPI2_NSS,I2S2_WS,USART3_CK,TSC_G6_IO2,EVENTOUT"